# Altium footprint library Componentes.PcbLib: 20 footprints (part 2 of 2)
Each footprint in its own frame and in the unit in brackets; x right, y up, seen from the top. Pads: shape width x height; smd on the part's side, far side on the other; paste and mask are expansions set on the pad; w line width, h text height; cw(c..) or ccw(c..) is an arc to the next point about the centre after c.
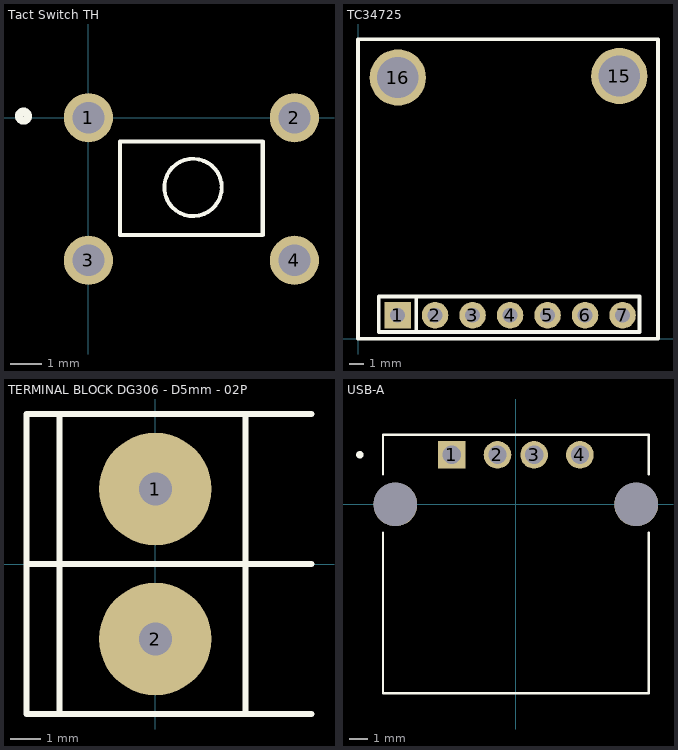
[diagram p1: the footprints below, top view; thin cyan lines are the x and y axes]

## Tact Switch TH [mm] "Tact Swtitch, 6x6mm, TH"
pads (4):
  round 1.55 hole 1: 1(0,0) 2(6.5,0) 3(0,-4.5) 4(6.5,-4.5)
Top Overlay:
  circle w0.254: c-2.05,0.05 r0.141
  circle w0.125: c3.3,-2.2 r0.906
  lines w0.127: 1,-3.7 5.5,-3.7 5.5,-0.75 1,-0.75 1,-3.7

## TC34725 [mm] "TC34725 Sensor RGB"
pads (9):
  rect 1.8x1.8 hole 1: 1(2.68,1.6)
  round 1.8 hole 1: 2(5.22,1.6) 3(7.76,1.6) 4(10.3,1.6) 5(12.84,1.6) 6(15.38,1.6) 7(17.92,1.6)
  round 3.81 hole 2.794: 15(17.7,17.8) 16(2.7,17.7)
Top Overlay:
  lines w0.254: 3.95,0.584 3.95,2.743 ; 0,0 20.32,0 20.32,20.3 0,20.3 0,0 ; 1.41,0.457 1.41,2.87 19.063,2.87 19.063,0.457 1.41,0.457

## TERMINAL BLOCK DG306 - D5mm - 02P [mm] "Bornera con Tornillos 5mm separación. / 250V 15A."
height 10
pads (2):
  round 3.75 hole 1.1: 1(0,2.5) 2(0,-2.5)
Top Overlay:
  lines w0.2: -4.295,0 5.205,0 ; -3.195,-5 -3.195,5 ; 3.005,-5 3.005,5 ; 5.205,-5 -4.295,-5 -4.295,5 5.205,5
3D body "2 PIN DG306-5 GREEN - PITCH 5 mm.stp": height 10, standoff -3.89, extent -3.1,-5 4.5,5.6

## USB-A [mm]
height 7.1
pads (6):
  rect 1.508x1.508 / inner round 1.508 / far side rect 1.508x1.508 hole 1: 1(-3.5,2.71)
  round 1.508 hole 1: 2(-1,2.71) 3(1,2.71) 4(3.5,2.71)
  round 2.38 hole 2.38 unplated: ""(-6.57,0) ""(6.57,0)
Top Overlay:
  circle w0.2: c-8.51,2.71 r0.1
  lines w0.127: -7.25,-1.55 -7.25,-10.3 7.25,-10.3 7.25,-1.55 ; -7.25,1.65 -7.25,3.8 7.25,3.8 7.25,1.65
3D body "USB-A1HSW6--3DModel-STEP-740395.STEP": height 7.6, standoff -3.2, extent -7.773,-10.3 8.027,3.8